# EAGLE library part 750811617 (library wurth_electronics_midcom_inc_v2-1)
Package Style: EFD25 Mounting: THT Pins: 12 pins Bobbin: 070-6008 Best pinouts for production vary per application. Please contact Wurth Electronics Midcom, Inc. for assistance with your custom design. Website: Wurth Electronics Midcom <http://www.we-online.com/midcom> Contact us Wurth Electronics Midcom, Inc. 121 Airport Dr. Watertown, SD 57201 Phone: (605) 886-4385 Fax: (605) 886-4486 E-Mail: midcom@we-online.com
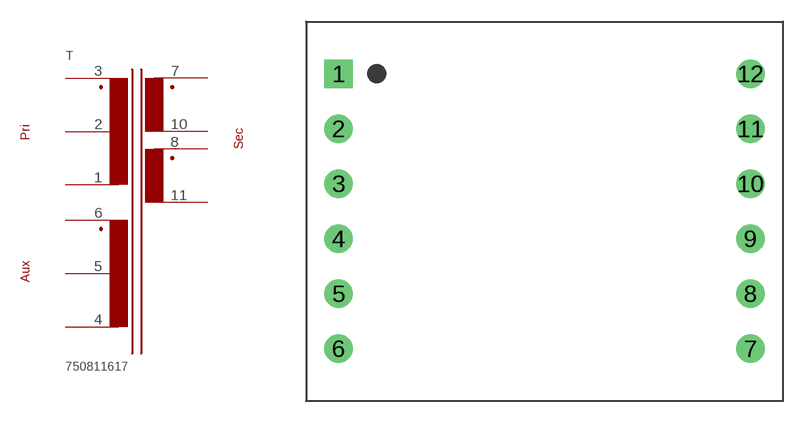
[diagram p215: symbol with the pads of EFD25_THT_H_12PIN_(6008); footprint EFD25_THT_H_12PIN_(6008)]

Designator prefix T

## 750811617  [EFD25_THT_H_12PIN_(6008)]
1  1  pas
2  2  pas
3  3  pas
4  4  pas
5  5  pas
6  6  pas
7  7  pas
8  8  pas
10  10  pas
11  11  pas

## Footprint EFD25_THT_H_12PIN_(6008) (pad centres in mm)
Package Style: EFD25 Mounting: THT Pins: 12 Bobbin: 070-6008
drill 1.321 square: 1 -14.249,9.525
drill 1.321: 2 -14.249,5.715; 3 -14.249,1.905; 4 -14.249,-1.905; 5 -14.249,-5.715; 6 -14.249,-9.525; 7 14.249,-9.525; 8 14.249,-5.715; 9 14.249,-1.905; 10 14.249,1.905; 11 14.249,5.715; 12 14.249,9.525